# Altium footprint library 制冷系统控制板.PCBLIB: 44 footprints (part 3 of 3)
Each footprint in its own frame and in the unit in brackets; x right, y up, seen from the top. Pads: shape width x height; smd on the part's side, far side on the other; paste and mask are expansions set on the pad; w line width, h text height; cw(c..) or ccw(c..) is an arc to the next point about the centre after c.
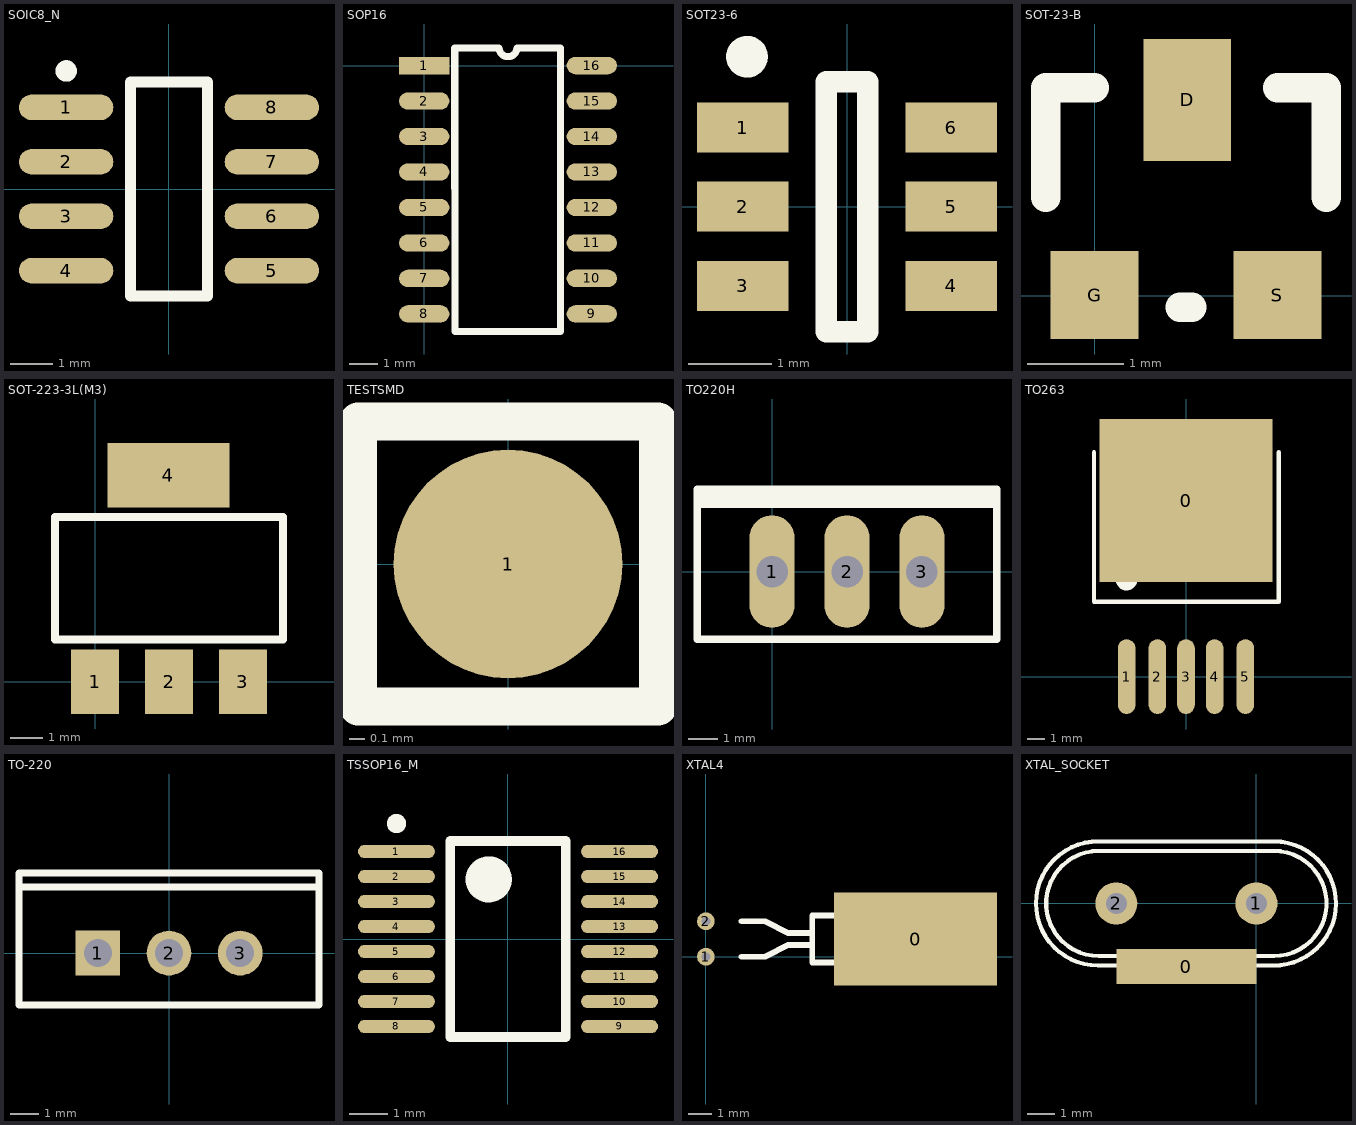
[diagram p2: the footprints below, top view; thin cyan lines are the x and y axes]

## SOIC8_N [mm]
pads (8):
  oval 2.2x0.6 smd: 1(-2.4,1.905) 2(-2.4,0.635) 3(-2.4,-0.635) 4(-2.4,-1.905) 5(2.4,-1.905) 6(2.4,-0.635) 7(2.4,0.635) 8(2.4,1.905)
顶层丝印:
  circle w0.25: c-2.4,2.755 r0.125
  lines w0.254: -0.9,-2.5 -0.9,2.5 0.9,2.5 0.9,-2.5 -0.9,-2.5

## SOP16 [mm]
pads (16):
  rect 1.8x0.62 smd: 1(0,0)
  oval 1.8x0.62 smd: 2(0,-1.27) 3(0,-2.54) 4(0,-3.81) 5(0,-5.08) 6(0,-6.35) 7(0,-7.62) 8(0,-8.89) 9(6,-8.89) 10(6,-7.62) 11(6,-6.35) 12(6,-5.08) 13(6,-3.81) 14(6,-2.54) 15(6,-1.27) 16(6,0)
顶层丝印:
  lines w0.254: 1.092,0.635 1.1,-9.525 4.877,-9.525 4.877,0.635 3.317,0.635 cw(c3,0.635) 2.682,0.635 1.092,0.635

## SOT23-6 [mm]
pads (6):
  rect 1.1x0.6 smd: 1(-1.25,0.95) 2(-1.25,0) 3(-1.25,-0.95) 4(1.25,-0.95) 5(1.25,0) 6(1.25,0.95)
顶层丝印:
  circle w0.25: c-1.2,1.8 r0.125
  lines w0.254: -0.25,-1.5 0.25,-1.5 0.25,1.5 -0.25,1.5 -0.25,-1.5

## SOT-23-B [mil]
pads (3):
  rect 36x50 smd: D(38,80.28)
  rect 36x36 smd: G(0,0.28) S(75,0.28)
顶层丝印:
  lines w12: -20,40.28 -20,85.28 0,85.28 ; 35,-4.72 40,-4.72 ; 75,85.28 95,85.28 95,40.28

## SOT-223-3L(M3) [mil]
pads (4):
  rect 59x79 smd: 1(0,0.01) 2(90.55,0.01) 3(181.1,0.01)
  rect 150x79 smd: 4(89.88,253.55)
顶层丝印:
  lines w10: -49.45,52.01 -49.45,202.01 230.55,202.01 230.55,52.01 -49.45,52.01

## TESTSMD [mil]
pads (1):
  round 60 smd: 1(0,0.01)
顶层丝印:
  lines w10: -39.37,-37.39 39.37,-37.39 39.37,37.41 -39.37,37.41 -39.37,-37.39

## TO220H [mil]
pads (3):
  oval 60x150 hole 42: 1(0,0.01) 2(100,0.01) 3(200,0.01)
顶层丝印:
  lines w10: -100,90.01 300,90.01 ; -100,100.01 300,100.01 ; -100,-89.99 -100,110.01 300,110.01 300,-89.99 -100,-89.99

## TO263 [mil]
pads (6):
  rect 393.7x370.08 smd: 0(0,400.01)
  oval 40x170 smd: 1(-135,0.01) 2(-65,0.01) 3(0,0.01) 4(65,0.01) 5(135,0.01)
顶层丝印:
  circle w24: c-135,220.01 r12
  lines w10: -209,510.01 -209,170.01 211,170.01 211,510.01

## TO-220 [mm]
pads (3):
  rect 1.6x1.6 hole 1: 1(-2.54,0)
  round 1.6 hole 1: 2(0,0) 3(2.54,0)
顶层丝印:
  lines w0.254: -5.35,2.35 5.35,2.35 ; -5.35,-1.85 5.35,-1.85 5.35,2.85 -5.35,2.85 -5.35,-1.85

## TSSOP16_M [mm]
pads (16):
  oval 2x0.35 smd: 1(-2.9,2.275) 2(-2.9,1.625) 3(-2.9,0.975) 4(-2.9,0.325) 5(-2.9,-0.325) 6(-2.9,-0.975) 7(-2.9,-1.625) 8(-2.9,-2.275) 9(2.9,-2.275) 10(2.9,-1.625) 11(2.9,-0.975) 12(2.9,-0.325) 13(2.9,0.325) 14(2.9,0.975) 15(2.9,1.625) 16(2.9,2.275)
顶层丝印:
  circle w0.6: c-0.5,1.55 r0.3
  circle w0.25: c-2.9,3 r0.125
  lines w0.254: -1.5,-2.55 1.5,-2.55 1.5,2.55 -1.5,2.55 -1.5,-2.55

## XTAL4 [mil]
pads (3):
  rect 275.59x157.48 smd: 0(355,30)
  round 30 hole 15: 1(0,0.01) 2(0,60)
顶层丝印:
  lines w10: 60,0 100,0 140,20 180,20 ; 60,60 100,60 140,40 180,40 ; 180,-10 420,-10 420,70 180,70 180,-10

## XTAL_SOCKET [mil]
pads (3):
  rect 200x50 smd: 0(-100,-90)
  round 60 hole 30: 1(0,0) 2(-200,0)
顶层丝印:
  lines w6: -226,-88.57 cw(c-226,0.01) -225.09,88.59 25,88.59 cw(c25,0.01) 24.07,-88.57 -226,-88.57 ; -225,-74.99 cw(c-225,0.01) -225,75.01 25,75.01 cw(c25,0.01) 25,-74.99 -225,-74.99